# Altium footprint library UQFN.PcbLib: 1 footprints
Each footprint in its own frame and in the unit in brackets; x right, y up, seen from the top. Pads: shape width x height; smd on the part's side, far side on the other; paste and mask are expansions set on the pad; w line width, h text height; cw(c..) or ccw(c..) is an arc to the next point about the centre after c.
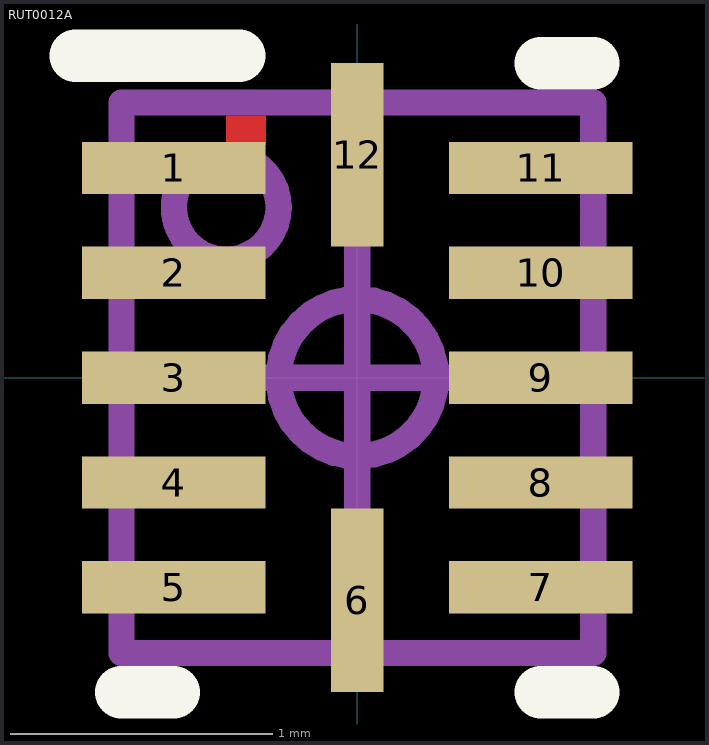
[diagram p0: the footprint, top view; thin cyan lines are the x and y axes]

## RUT0012A [mm]
pads (12):
  rect 0.7x0.2 smd paste-0.337: 1(-0.7,0.8) 2(-0.7,0.4) 3(-0.7,0) 4(-0.7,-0.4) 5(-0.7,-0.8) 7(0.7,-0.8) 8(0.7,-0.4) 9(0.7,0) 10(0.7,0.4) 11(0.7,0.8)
  rect 0.2x0.7 smd paste-0.337: 6(0,-0.85) 12(0,0.85)
Top Layer:
  region: -0.5,1 -0.5,0.889 -0.35,0.889 -0.35,1
Top Overlay:
  lines w0.2: -1.075,1.228 -0.45,1.228 ; -0.9,-1.2 -0.7,-1.2 ; 0.7,-1.2 0.9,-1.2 ; 0.7,1.2 0.9,1.2
Top Solder:
  region: -0.551,1.051 -0.551,0.849 -0.299,0.849 -0.299,1.051
Mechanical 13:
  circle w0.1: c-0.5,0.65 r0.2
  lines w0.1: -0.9,-1.05 0.9,-1.05 0.9,1.05 -0.9,1.05 -0.9,-1.05
Mechanical 15:
  circle w0.1: c0,0 r0.3
  lines w0.1: -0.6,0 0.6,0 ; 0,-0.6 0,0.6
3D body "RUT0012A.stp": height 0.55, standoff 0, extent -0.85,-1 0.85,1